# EAGLE library part L9110 (library Xmaker)
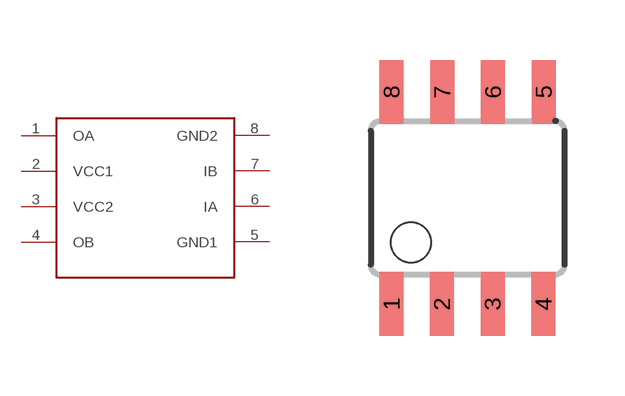
[diagram p1: symbol with the pads of SOP8; footprint SOP8]

Designator prefix -

## L9110  [SOP8]
1  OA
2  VCC1
3  VCC2
4  OB
5  GND1
6  IA
7  IB
8  GND2

## Footprint SOP8 (pad centres in mm)
smd 0.6 x 1.6: 1 -1.905,-2.654; 2 -0.645,-2.654; 3 0.625,-2.654; 4 1.895,-2.654; 5 1.905,2.654; 6 0.635,2.654; 7 -0.635,2.654; 8 -1.905,2.654